# EAGLE library part I__74*139 (library ..SMD)
Dual 2-line to 4-line DECODER/DEMULTIPLEXER
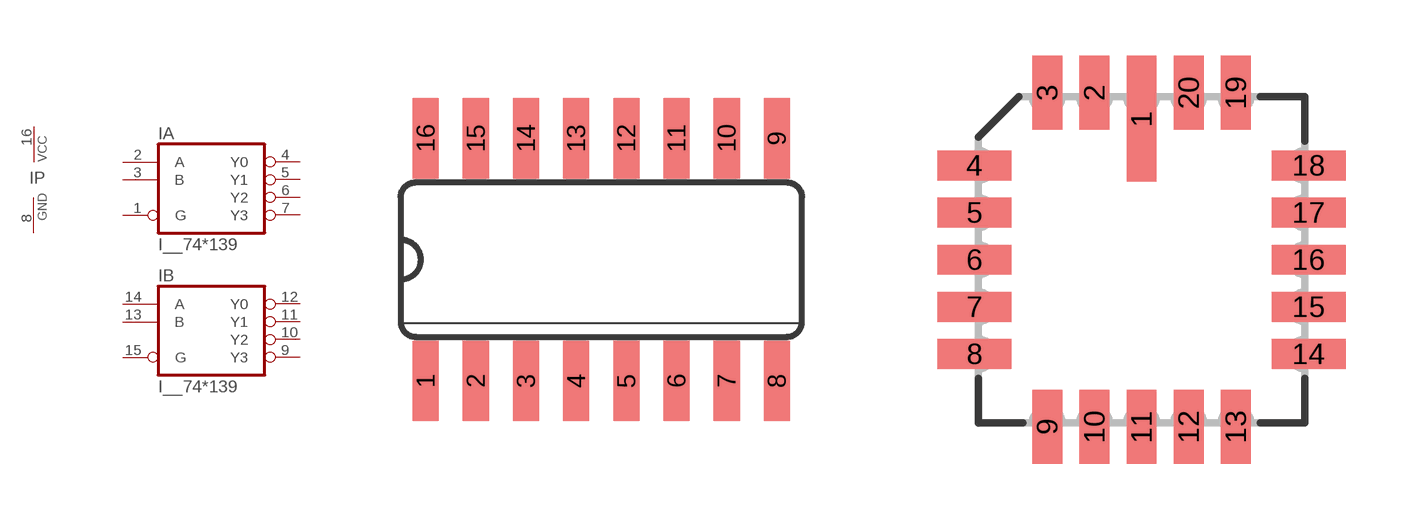
[diagram p211: symbol with the pads of SO16; footprints SO16, LCC20]

Designator prefix I; gates A=74139 B=74139 P=PWRN-2

## I__74AC139D, I__74ACT139D, I__74HC139D, I__74HCT139D, I__74LS139D, I__74S139D  [SO16]
1  A:G  in
2  A:A  in
3  A:B  in
4  A:Y0  out
5  A:Y1  out
6  A:Y2  out
7  A:Y3  out
8  P:GND  pwr
9  B:Y3  out
10  B:Y2  out
11  B:Y1  out
12  B:Y0  out
13  B:B  in
14  B:A  in
15  B:G  in
16  P:VCC  pwr

## I__74AC139FK, I__74ACT139FK, I__74HC139FK, I__74HCT139FK, I__74LS139FK, I__74S139FK  [LCC20]
2  A:G  in
3  A:A  in
4  A:B  in
5  A:Y0  out
7  A:Y1  out
8  A:Y2  out
9  A:Y3  out
10  P:GND  pwr
12  B:Y3  out
13  B:Y2  out
14  B:Y1  out
15  B:Y0  out
17  B:B  in
18  B:A  in
19  B:G  in
20  P:VCC  pwr

## Footprint SO16 (pad centres in mm)
Small Outline Package 16
smd 0.66 x 2.032: 1 -4.445,-3.073; 2 -3.175,-3.073; 3 -1.905,-3.073; 4 -0.635,-3.073; 5 0.635,-3.073; 6 1.905,-3.073; 7 3.175,-3.073; 8 4.445,-3.073; 9 4.445,3.073; 10 3.175,3.073; 11 1.905,3.073; 12 0.635,3.073; 13 -0.635,3.073; 14 -1.905,3.073; 15 -3.175,3.073; 16 -4.445,3.073

## Footprint LCC20 (pad centres in mm)
Leadless Chip Carrier Ceramic Package
smd 0.8 x 3.4: 1 0,3.8
smd 0.8 x 2: 2 -1.27,4.5; 3 -2.54,4.5; 9 -2.54,-4.5; 10 -1.27,-4.5; 11 0,-4.5; 12 1.27,-4.5; 13 2.54,-4.5; 19 2.54,4.5; 20 1.27,4.5
smd 2 x 0.8: 4 -4.5,2.54; 5 -4.5,1.27; 6 -4.5,0; 7 -4.5,-1.27; 8 -4.5,-2.54; 14 4.5,-2.54; 15 4.5,-1.27; 16 4.5,0; 17 4.5,1.27; 18 4.5,2.54